# Altium footprint library SAMESKY_SD7-4-B.PcbLib: 1 footprints
Each footprint in its own frame and in the unit in brackets; x right, y up, seen from the top. Pads: shape width x height; smd on the part's side, far side on the other; paste and mask are expansions set on the pad; w line width, h text height; cw(c..) or ccw(c..) is an arc to the next point about the centre after c.
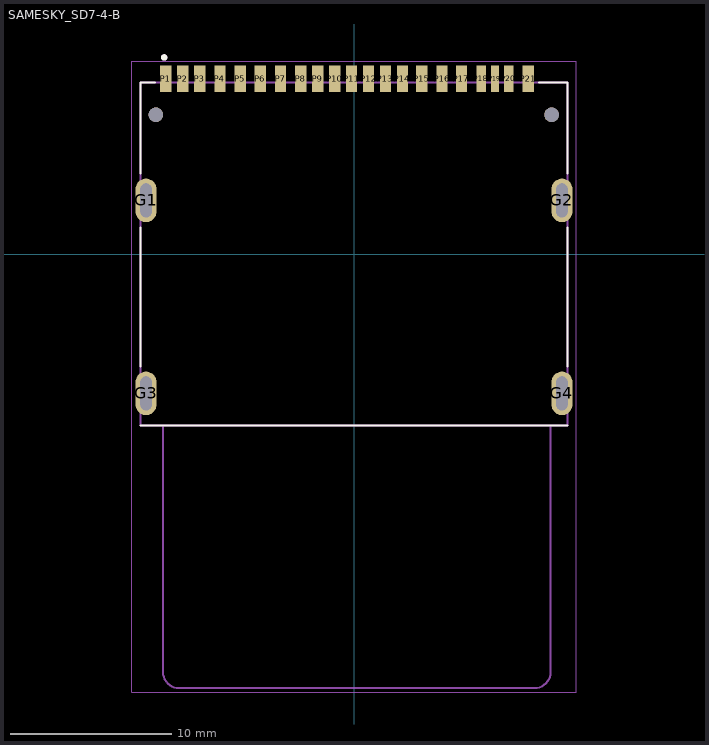
[diagram p0: the footprint, top view; thin cyan lines are the x and y axes]

## SAMESKY_SD7-4-B [mm]
height 5.87
pads (27):
  oval 1.3x2.7 hole 0.7 slot 2.1 at 90 deg: G1(-12.875,3.325) G2(12.875,3.325) G3(-12.875,-8.625) G4(12.875,-8.625)
  rect 0.7x1.65 smd: P1(-11.65,10.85) P2(-10.6,10.85) P3(-9.55,10.85) P4(-8.3,10.85) P5(-7.05,10.85) P6(-5.8,10.85) P7(-4.55,10.85) P8(-3.3,10.85) P9(-2.25,10.85) P10(-1.2,10.85) P11(-0.15,10.85) P12(0.9,10.85) P13(1.95,10.85) P14(3,10.85) P15(4.2,10.85) P16(5.45,10.85) P17(6.65,10.85) P21(10.78,10.85)
  rect 0.6x1.65 smd: P18(7.88,10.85) P20(9.58,10.85)
  rect 0.5x1.65 smd: P19(8.73,10.85)
  round 0.9 hole 0.9 unplated: ""(-12.27,8.625) ""(12.23,8.625)
Top Overlay:
  circle w0.2: c-11.75,12.175 r0.1
  lines w0.127: -13.225,-10.625 13.225,-10.625 ; -13.225,-6.955 -13.225,1.655 ; -13.225,4.995 -13.225,10.625 -12.32,10.625 ; 11.45,10.625 13.225,10.625 13.225,4.995 ; 13.225,-6.955 13.225,1.655
Assembly Top:
  circle w0.2: c-11.75,12.175 r0.1
  lines w0.127: -11.825,-10.625 12.175,-10.625 ; -11.825,-10.625 -13.225,-10.625 -13.225,10.625 13.225,10.625 13.225,-10.625 12.175,-10.625 ; -11.825,-10.625 -11.825,-25.875 ccw(c-10.825,-25.875) -10.825,-26.875 11.175,-26.875 ccw(c11.175,-25.875) 12.175,-25.875 12.175,-10.625
Courtyard Top:
  lines w0.05: -13.775,-27.125 13.775,-27.125 13.775,11.925 -13.775,11.925 -13.775,-27.125